# Altium schematic symbol library StepDriver.SchLib: 2 symbols
Pins are listed as number, name and electrical type; pins without a type are passive.

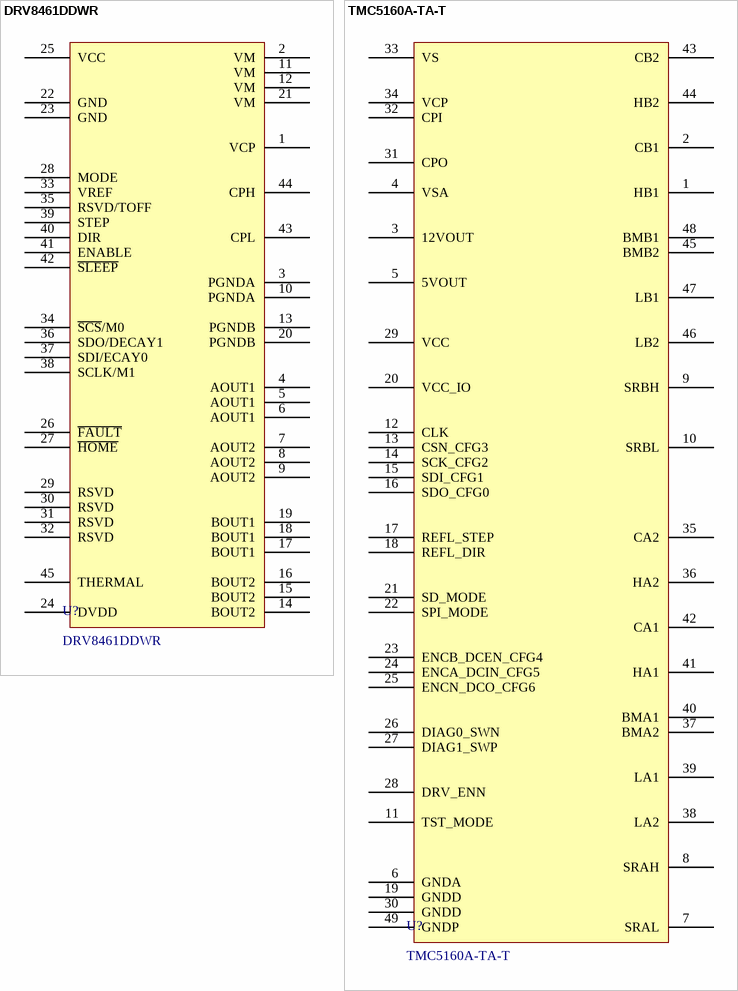
[diagram p0: symbols DRV8461DDWR to TMC5160A-TA-T]

## DRV8461DDWR
designator U?
Stepper Motor Driver for High Efficiency and Noiseless Operation; Manufacturer: Texas Instruments; Interface Type: SPI, Step/Direction; Control Voltage: 3.05V~5.5V; Drive Type: Bipolar Driver; Motor Drive Voltage: 4.5V~65V; Output Current: 3A; RDS(on): 300mΩ; Step Resolution: 256; ComponentLink1Description: Datasheet; ComponentLink1URL: https://www.ti.com/lit/ds/symlink/drv8461.pdf; LCSC Part #: C5672510; Manufacturer Part Number: DRV8461DDWR; Mount: SMD/SMT; Operating Temperature Max: + 125 C; Operating Temperature Min: - 40 C; Package / Case: HTSSOP-44; Packaging: Tape and Reel; Supplier 1 Part Number: 595-DRV8461DDWR; Supplier 1 URL: https://www.mouser.vn/en/ProductDetail/Texas-Instruments/DRV8461DDWR?qs=rQFj71Wb1eU7jNAXKY3r1w%3D%3D; Supplier 1: Mouser; Supplier 2 Part Number: 296-DRV8461DDWRTR-ND; Supplier 2 URL: https://www.digikey.com/en/products/detail/texas-instruments/DRV8461DDWR/17748436; Supplier 2: Digi-Key; Supplier 3 Part Number: N/A; Supplier 3 URL: N/A; Supplier 3: thegioiic; Value: DRV8461DDWR
footprint DRV8461DDWR (TSOP, 44-Leads, Body 14.00x6.10mm, Pitch 0.64mm, Thermal Pad 8.00x3.80mm, IPC Medium Density)
pins: 1 VCP, 2 VM, 3 PGNDA, 4 AOUT1, 5 AOUT1, 6 AOUT1, 7 AOUT2, 8 AOUT2, 9 AOUT2, 10 PGNDA, 11 VM, 12 VM, 13 PGNDB, 14 BOUT2, 15 BOUT2, 16 BOUT2, 17 BOUT1, 18 BOUT1, 19 BOUT1, 20 PGNDB, 21 VM, 22 GND, 23 GND, 24 DVDD, 25 VCC, 26 ~{FAULT}, 27 ~{HOME}, 28 MODE, 29 RSVD, 30 RSVD, 31 RSVD, 32 RSVD, 33 VREF, 34 ~{SCS}/M0, 35 RSVD/TOFF, 36 SDO/DECAY1, 37 SDI/ECAY0, 38 SCLK/M1, 39 STEP, 40 DIR, 41 ENABLE, 42 ~{SLEEP}, 43 CPL, 44 CPH, 45 THERMAL

## TMC5160A-TA-T
designator U?
-40℃~+125℃ 256 3.3V~5V 8V~60V Bipolar Driver No STEP/DIR、SPI、UART Short-Circuit  Protection、Over temperature protection、Motor step-out prevention function、Built-in charge pump、Dead-time / shoot-through protection TQFP-48-EP(7x7) Stepper Motor Driver ROHS; Manufacturer: ADI/TRINAMIC; Control Voltage: 3.05V~5.5V; Interface Type: SPI, Step/Direction; Motor Drive Voltage: TBD; Step Resolution: 256; ComponentLink1Description: Datasheet; ComponentLink1URL: https://www.lcsc.com/datasheet/C516354.pdf; Drive Type: Bipolar Driver; LCSC Part #: C516354; Manufacturer Part Number: TMC5160A-TA-T; Mount: SMD/SMT; Operating Temperature Max: + 125 C; Operating Temperature Min: - 40 C; Output Current: TBD; Package / Case: TQFP-48-EP; Packaging: Tape and Reel; RDS(on): TBD; Supplier 1 Part Number: 700-TMC5160A-TA-T; Supplier 1 URL: https://www.mouser.vn/en/ProductDetail/Analog-Devices-Maxim-Integrated/TMC5160A-TA-T?qs=7MVldsJ5UaxMiYKmUyNyvA%3D%3D; Supplier 1: Mouser; Supplier 2 Part Number: 175-TMC5160A-TA-TTR-ND; Supplier 2 URL: https://www.digikey.com/en/products/detail/analog-devices-inc-maxim-integrated/tmc5160a-ta-t/11306895; Supplier 2: Digi-Key; Supplier 3 Part Number: N/A; Supplier 3 URL: N/A; Supplier 3: thegioiic; Value: TMC5160A-TA-T
footprint TMC5160A-TA-T (TSQFP, 48-Leads, Body 7.00x7.00mm, Pitch 0.50mm, Thermal Pad 5.10x5.10mm, IPC Medium Density)
pins: 1 HB1, 2 CB1, 3 12VOUT, 4 VSA, 5 5VOUT, 6 GNDA, 7 SRAL, 8 SRAH, 9 SRBH, 10 SRBL, 11 TST_MODE, 12 CLK, 13 CSN_CFG3, 14 SCK_CFG2, 15 SDI_CFG1, 16 SDO_CFG0, 17 REFL_STEP, 18 REFL_DIR, 19 GNDD, 20 VCC_IO, 21 SD_MODE, 22 SPI_MODE, 23 ENCB_DCEN_CFG4, 24 ENCA_DCIN_CFG5, 25 ENCN_DCO_CFG6, 26 DIAG0_SWN, 27 DIAG1_SWP, 28 DRV_ENN, 29 VCC, 30 GNDD, 31 CPO, 32 CPI, 33 VS, 34 VCP, 35 CA2, 36 HA2, 37 BMA2, 38 LA2, 39 LA1, 40 BMA1, 41 HA1, 42 CA1, 43 CB2, 44 HB2, 45 BMB2, 46 LB2, 47 LB1, 48 BMB1, 49 GNDP